# EAGLE library part KSZ8081MLX (library Bauteile)
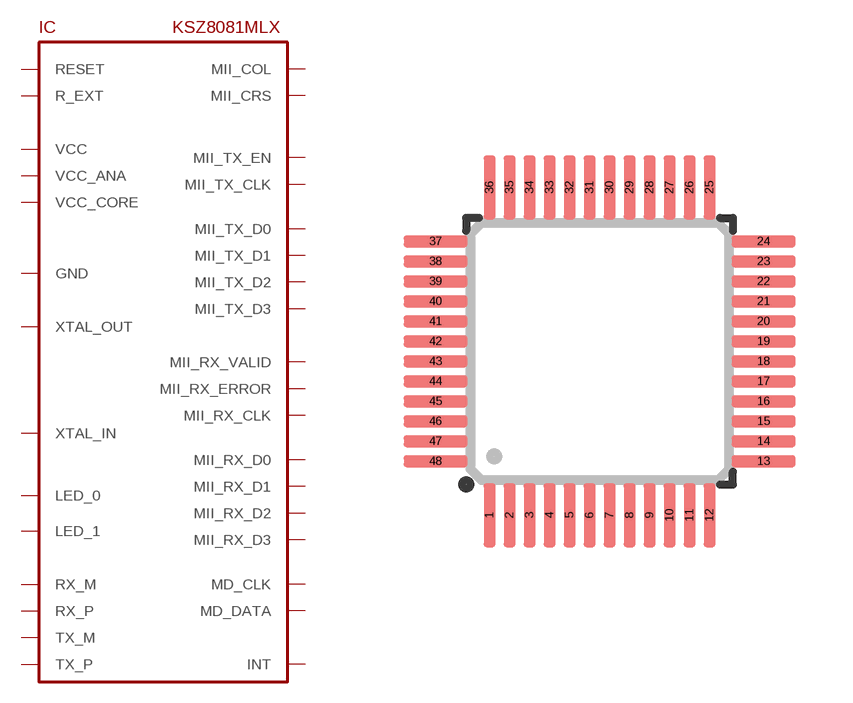
[diagram p53: symbol with the pads of LQFP48-0.5; footprint LQFP48-0.5]

Designator prefix IC

## KSZ8081MLX  [LQFP48-0.5]
1  GND
2  GND
3  GND
4  VCC_CORE
7  VCC_ANA
9  RX_M
10  RX_P
11  TX_M
12  TX_P
13  GND
14  XTAL_OUT
15  XTAL_IN
16  R_EXT
17  GND
18  MD_DATA
19  MD_CLK
20  MII_RX_D3
21  MII_RX_D2
22  MII_RX_D1
23  MII_RX_D0
24  GND
25  VCC
27  MII_RX_VALID
28  MII_RX_CLK
29  MII_RX_ERROR
30  GND
31  VCC_CORE
32  INT
33  MII_TX_CLK
34  MII_TX_EN
35  MII_TX_D0
36  MII_TX_D1
37  GND
38  MII_TX_D2
39  MII_TX_D3
40  MII_COL
41  MII_CRS
42  LED_0
43  LED_1
47  RESET

## Footprint LQFP48-0.5 (pad centres in mm)
smd 0.3 x 1.6: 1 -2.75,-4.1; 2 -2.25,-4.1; 3 -1.75,-4.1; 4 -1.25,-4.1; 5 -0.75,-4.1; 6 -0.25,-4.1; 7 0.25,-4.1; 8 0.75,-4.1; 9 1.25,-4.1; 10 1.75,-4.1; 11 2.25,-4.1; 12 2.75,-4.1; 25 2.75,4.1; 26 2.25,4.1; 27 1.75,4.1; 28 1.25,4.1; 29 0.75,4.1; 30 0.25,4.1; 31 -0.25,4.1; 32 -0.75,4.1; 33 -1.25,4.1; 34 -1.75,4.1; 35 -2.25,4.1; 36 -2.75,4.1
smd 1.6 x 0.3: 13 4.1,-2.75; 14 4.1,-2.25; 15 4.1,-1.75; 16 4.1,-1.25; 17 4.1,-0.75; 18 4.1,-0.25; 19 4.1,0.25; 20 4.1,0.75; 21 4.1,1.25; 22 4.1,1.75; 23 4.1,2.25; 24 4.1,2.75; 37 -4.1,2.75; 38 -4.1,2.25; 39 -4.1,1.75; 40 -4.1,1.25; 41 -4.1,0.75; 42 -4.1,0.25; 43 -4.1,-0.25; 44 -4.1,-0.75; 45 -4.1,-1.25; 46 -4.1,-1.75; 47 -4.1,-2.25; 48 -4.1,-2.75